# EAGLE library part 61300811821 (library Board_to_Board_Connectors_rev15d)
WR-PHD 2.54mm Socket Header, 8 Pins =>Code : Con_BTB_SHD_2.54_1_THT_61300811821 <http://katalog.we-online.de/media/images/eican/Con_BTB_SHD_2.54_1_THT_6130xx11821_pf2.jpg> Details see: http://katalog.we-online.de/en/em/613_0xx_118_21 Created 2014-05-29, Karrer Zheng 2014 (C) Würth Elektronik
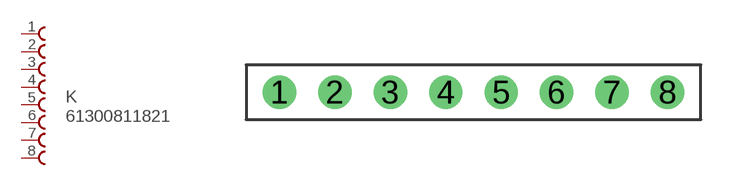
[diagram p92: symbol with the pads of 61300811821; footprint 61300811821]

Designator prefix K

## 61300811821  [61300811821]
1  1  pas
2  2  pas
3  3  pas
4  4  pas
5  5  pas
6  6  pas
7  7  pas
8  8  pas

## Footprint 61300811821 (pad centres in mm)
WR-PHD 2.54mm Socket Header, 8 Pins
drill 1.02: 1 -8.89,0; 2 -6.35,0; 3 -3.81,0; 4 -1.27,0; 5 1.27,0; 6 3.81,0; 7 6.35,0; 8 8.89,0